# EAGLE library part CON_7P (library Connectors)
7 Positions Header Connector 2.00mm, Through Hole, Side SMD
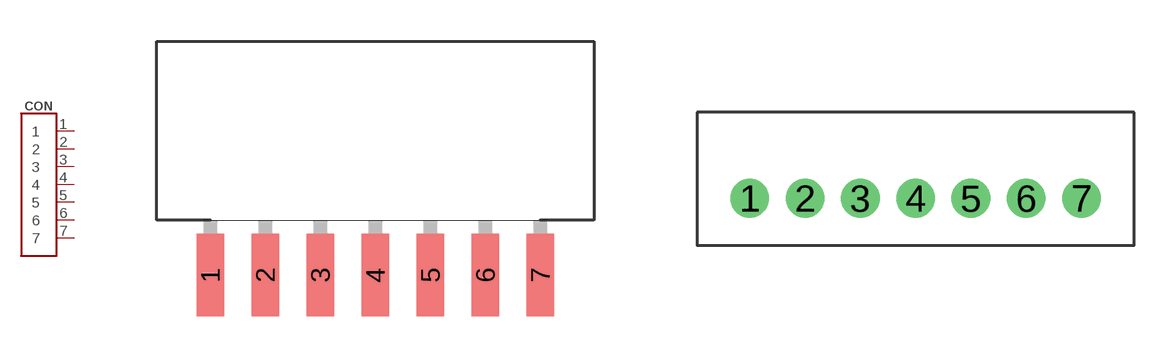
[diagram p4: symbol with the pads of B7B-PH-K-S_SIDE; footprints B7B-PH-K-S_SIDE, B7B-PH-K-S]

Designator prefix CON

## CON_7P-SIDE (CHIPDIP#: 9000325603; DIGIKEY#: 455-1709-ND; MANF: JST Sales America Inc.; MANF#: B7B-PH-K-S(LF)(SN); PITCH: 2mm)  [B7B-PH-K-S_SIDE]
1  1
2  2
3  3
4  4
5  5
6  6
7  7

## CON_7P-STRAIGHT (CHIPDIP: 9000325603; DIGIKEY#: 455-1709-ND; MANF: JST Sales America Inc; MANF#: B7B-PH-K-S(LF)(SN); PITCH: 2mm)  [B7B-PH-K-S]
Pads as for B7B-PH-K-S_SIDE

## Footprint B7B-PH-K-S_SIDE (pad centres in mm)
smd 1 x 3: 1 -6,-0.25; 2 -4,-0.25; 3 -2,-0.25; 4 0,-0.25; 5 2,-0.25; 6 4,-0.25; 7 6,-0.25

## Footprint B7B-PH-K-S (pad centres in mm)
drill 0.7 pad 1.4: 1 -6,-0.7; 2 -4,-0.7; 3 -2,-0.7; 4 0,-0.7; 5 2,-0.7; 6 4,-0.7; 7 6,-0.7